# EAGLE library part LM2679 (library dflocal)
SIMPLE SWITCHER 5A switch-mode power supply controller Input voltage range: 8-40V Output current: 5A
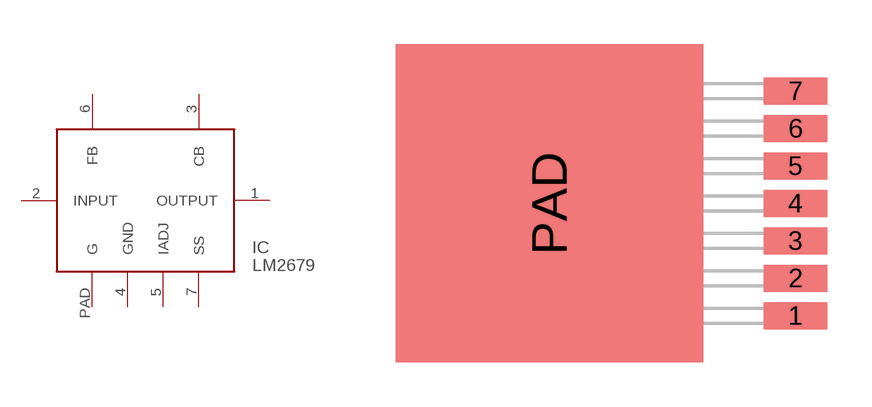
[diagram p0: symbol with the pads of TO263-7; footprint TO263-7]

Designator prefix IC

## LM2679  [TO263-7]
1  OUTPUT  out
2  INPUT  in
3  CB
4  GND  pwr
5  IADJ
6  FB  in
7  SS
PAD  G  in

## Footprint TO263-7 (pad centres in mm)
smd 2.159 x 0.914: 1 8.331,-3.81; 2 8.331,-2.54; 3 8.331,-1.27; 4 8.331,0; 5 8.331,1.27; 6 8.331,2.54; 7 8.331,3.81
smd 10.414 x 10.795: PAD 0,0